# EAGLE library part DC/DC-EIGHTH_BRICK (library HyTechDeprecated)
Eighth Brick DC/DC
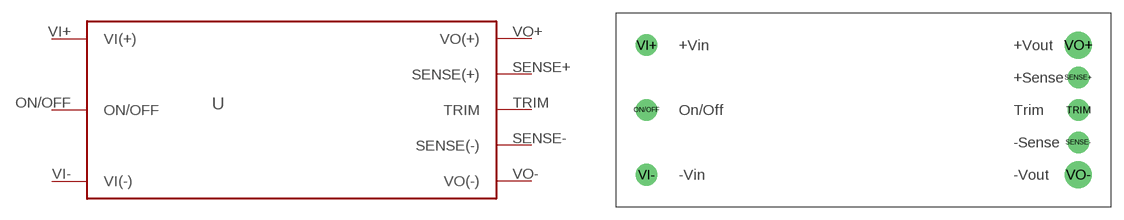
[diagram p0: symbol with the pads of DC/DC-EIGHTH_BRICK; footprint DC/DC-EIGHTH_BRICK]

Designator prefix -

## DC/DC-EIGHTH_BRICKEHHD006A0B41-HZ  [DC/DC-EIGHTH_BRICK]
ON/OFF  ON/OFF
SENSE+  SENSE(+)
SENSE-  SENSE(-)
TRIM  TRIM
VI+  VI(+)
VI-  VI(-)
VO+  VO(+)
VO-  VO(-)

## DC/DC-EIGHTH_BRICKUWE-12/10-Q12PB-C  [DC/DC-EIGHTH_BRICK]
Pads as for DC/DC-EIGHTH_BRICK

## Footprint DC/DC-EIGHTH_BRICK (pad centres in mm)
Eighth-Brick 8 pin
drill 1.27 pad 2.54: ON/OFF 0,-7.62; SENSE+ 50.8,-3.81; SENSE- 50.8,-11.43; TRIM 50.8,-7.62; VI+ 0,0; VI- 0,-15.24
drill 1.93 pad 3.175: VO+ 50.8,0; VO- 50.8,-15.24